# Altium footprint library TPS54383PWPR.PcbLib: 3 footprints
Each footprint in its own frame and in the unit in brackets; x right, y up, seen from the top. Pads: shape width x height; smd on the part's side, far side on the other; paste and mask are expansions set on the pad; w line width, h text height; cw(c..) or ccw(c..) is an arc to the next point about the centre after c.
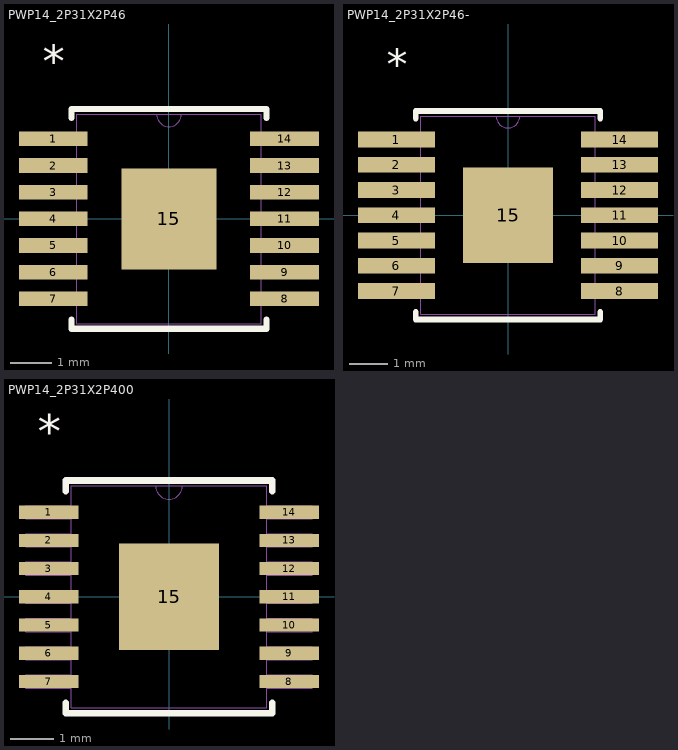
[diagram p0: the footprints below, top view; thin cyan lines are the x and y axes]

## PWP14_2P31X2P46 [mil]
pads (15):
  rect 66x14 smd: 1(-111,76.77) 2(-111,51.18) 3(-111,25.59) 4(-111,0) 5(-111,-25.59) 6(-111,-51.18) 7(-111,-76.77) 8(111,-76.77) 9(111,-51.18) 10(111,-25.59) 11(111,0) 12(111,25.59) 13(111,51.18) 14(111,76.77)
  rect 90.94x96.85 smd: 15(0,0)
Top Overlay:
  lines w6: -93.5,-96.87 -93.5,-105.5 93.5,-105.5 93.5,-96.87 ; -93.5,96.87 -93.5,105.5 93.5,105.5 93.5,96.87
  text "*" at -121,135.77 h31.25
Mechanical 1:
  lines w1: -12,100.5 ccw(c0,100.5) 12,100.5 ; -130,-82.77 -130,-70.77 -88.5,-70.77 -88.5,-82.77 -130,-82.77 ; -130,-57.18 -130,-45.18 -88.5,-45.18 -88.5,-57.18 -130,-57.18 ; -130,-31.59 -130,-19.59 -88.5,-19.59 -88.5,-31.59 -130,-31.59 ; -130,-6 -130,6 -88.5,6 -88.5,-6 -130,-6 ; -130,19.59 -130,31.59 -88.5,31.59 -88.5,19.59 -130,19.59 ; -130,45.18 -130,57.18 -88.5,57.18 -88.5,45.18 -130,45.18 ; -130,70.77 -130,82.77 -88.5,82.77 -88.5,70.77 -130,70.77 ; -88.5,-100.5 88.5,-100.5 88.5,100.5 -88.5,100.5 -88.5,-100.5 ; 88.5,-82.77 88.5,-70.77 130,-70.77 130,-82.77 88.5,-82.77 ; 88.5,-57.18 88.5,-45.18 130,-45.18 130,-57.18 88.5,-57.18 ; 88.5,-31.59 88.5,-19.59 130,-19.59 130,-31.59 88.5,-31.59 ; 88.5,-6 88.5,6 130,6 130,-6 88.5,-6 ; 88.5,19.59 88.5,31.59 130,31.59 130,19.59 88.5,19.59 ; 88.5,45.18 88.5,57.18 130,57.18 130,45.18 88.5,45.18 ; 88.5,70.77 88.5,82.77 130,82.77 130,70.77 88.5,70.77
  text "*" at -78.5,90.77 h31.25

## PWP14_2P31X2P46- [mil]
pads (15):
  rect 78x16 smd: 1(-113,76.77) 2(-113,51.18) 3(-113,25.59) 4(-113,0) 5(-113,-25.59) 6(-113,-51.18) 7(-113,-76.77) 8(113,-76.77) 9(113,-51.18) 10(113,-25.59) 11(113,0) 12(113,25.59) 13(113,51.18) 14(113,76.77)
  rect 90.94x96.85 smd: 15(0,0)
Top Overlay:
  lines w6: -93.5,-97.87 -93.5,-105.5 93.5,-105.5 93.5,-97.87 ; -93.5,97.87 -93.5,105.5 93.5,105.5 93.5,97.87
  text "*" at -123,137.77 h31.25
Mechanical 1:
  lines w1: -12,100.5 ccw(c0,100.5) 12,100.5 ; -130,-82.77 -130,-70.77 -88.5,-70.77 -88.5,-82.77 -130,-82.77 ; -130,-57.18 -130,-45.18 -88.5,-45.18 -88.5,-57.18 -130,-57.18 ; -130,-31.59 -130,-19.59 -88.5,-19.59 -88.5,-31.59 -130,-31.59 ; -130,-6 -130,6 -88.5,6 -88.5,-6 -130,-6 ; -130,19.59 -130,31.59 -88.5,31.59 -88.5,19.59 -130,19.59 ; -130,45.18 -130,57.18 -88.5,57.18 -88.5,45.18 -130,45.18 ; -130,70.77 -130,82.77 -88.5,82.77 -88.5,70.77 -130,70.77 ; -88.5,-100.5 88.5,-100.5 88.5,100.5 -88.5,100.5 -88.5,-100.5 ; 88.5,-82.77 88.5,-70.77 130,-70.77 130,-82.77 88.5,-82.77 ; 88.5,-57.18 88.5,-45.18 130,-45.18 130,-57.18 88.5,-57.18 ; 88.5,-31.59 88.5,-19.59 130,-19.59 130,-31.59 88.5,-31.59 ; 88.5,-6 88.5,6 130,6 130,-6 88.5,-6 ; 88.5,19.59 88.5,31.59 130,31.59 130,19.59 88.5,19.59 ; 88.5,45.18 88.5,57.18 130,57.18 130,45.18 88.5,45.18 ; 88.5,70.77 88.5,82.77 130,82.77 130,70.77 88.5,70.77
  text "*" at -78.5,92.77 h31.25

## PWP14_2P31X2P400 [mil]
pads (15):
  rect 54x12 smd: 1(-109,76.77) 2(-109,51.18) 3(-109,25.59) 4(-109,0) 5(-109,-25.59) 6(-109,-51.18) 7(-109,-76.77) 8(109,-76.77) 9(109,-51.18) 10(109,-25.59) 11(109,0) 12(109,25.59) 13(109,51.18) 14(109,76.77)
  rect 90.94x96.85 smd: 15(0,0)
Top Overlay:
  lines w6: -93.5,-95.87 -93.5,-105.5 93.5,-105.5 93.5,-95.87 ; -93.5,95.87 -93.5,105.5 93.5,105.5 93.5,95.87
  text "*" at -119,133.77 h31.25
Mechanical 1:
  lines w1: -12,100.5 ccw(c0,100.5) 12,100.5 ; -130,-82.77 -130,-70.77 -88.5,-70.77 -88.5,-82.77 -130,-82.77 ; -130,-57.18 -130,-45.18 -88.5,-45.18 -88.5,-57.18 -130,-57.18 ; -130,-31.59 -130,-19.59 -88.5,-19.59 -88.5,-31.59 -130,-31.59 ; -130,-6 -130,6 -88.5,6 -88.5,-6 -130,-6 ; -130,19.59 -130,31.59 -88.5,31.59 -88.5,19.59 -130,19.59 ; -130,45.18 -130,57.18 -88.5,57.18 -88.5,45.18 -130,45.18 ; -130,70.77 -130,82.77 -88.5,82.77 -88.5,70.77 -130,70.77 ; -88.5,-100.5 88.5,-100.5 88.5,100.5 -88.5,100.5 -88.5,-100.5 ; 88.5,-82.77 88.5,-70.77 130,-70.77 130,-82.77 88.5,-82.77 ; 88.5,-57.18 88.5,-45.18 130,-45.18 130,-57.18 88.5,-57.18 ; 88.5,-31.59 88.5,-19.59 130,-19.59 130,-31.59 88.5,-31.59 ; 88.5,-6 88.5,6 130,6 130,-6 88.5,-6 ; 88.5,19.59 88.5,31.59 130,31.59 130,19.59 88.5,19.59 ; 88.5,45.18 88.5,57.18 130,57.18 130,45.18 88.5,45.18 ; 88.5,70.77 88.5,82.77 130,82.77 130,70.77 88.5,70.77
  text "*" at -78.5,88.77 h31.25
3D body "PWP14_2P31X2P46.stp": height 67.09, standoff 0, extent -129.99,-100.51 130.01,100.52